# EAGLE library part 10118193 (library kiks-connector)
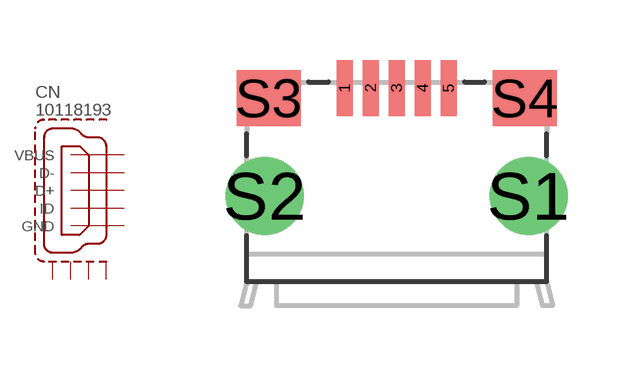
[diagram p2: symbol with the pads of 10118193; footprint 10118193]

Designator prefix CN

## 10118193  [10118193]
1  VBUS  pas
2  D-  pas
3  D+  pas
4  ID  pas
5  GND  pas
S1  S1  pas
S2  S2  pas
S3  S3  pas
S4  S4  pas

## Footprint 10118193 (pad centres in mm)
smd 0.4 x 1.4: 1 -1.3,2.7; 2 -0.65,2.7; 3 0,2.7; 4 0.65,2.7; 5 1.3,2.7
drill 1.3 pad 1.8: S1 3.3,0; S2 -3.3,0
smd 1.6 x 1.4: S3 -3.2,2.45; S4 3.2,2.45